# Altium schematic symbol library LLY.SchLib: 5 symbols
Pins are listed as number, name and electrical type; pins without a type are passive.

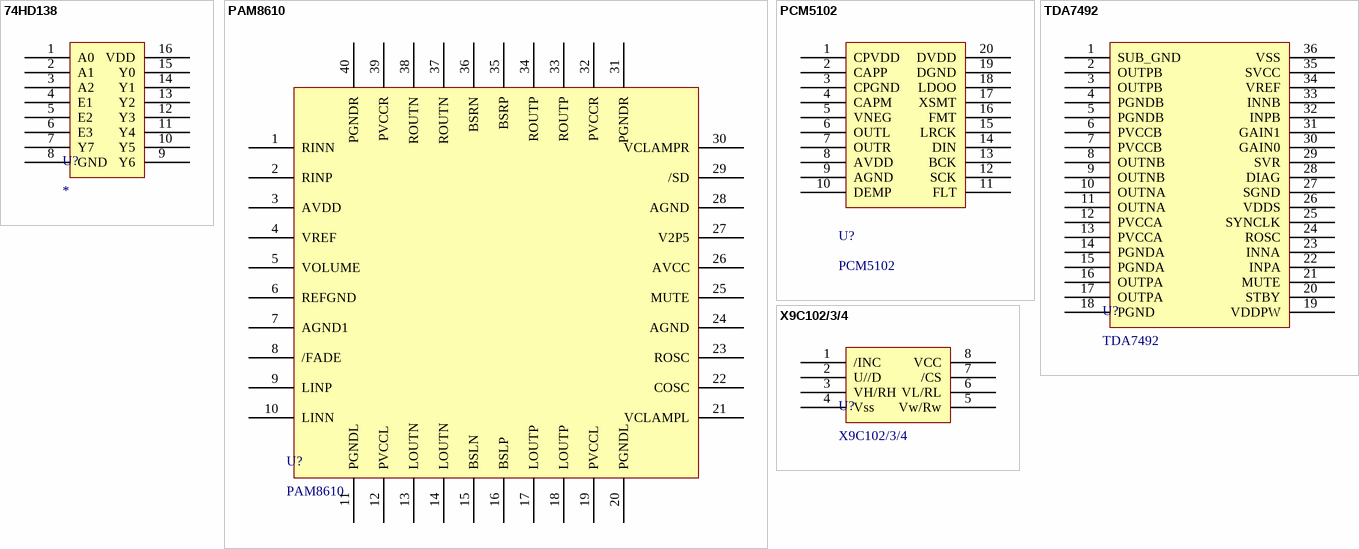
[diagram p0: symbols 74HD138 to X9C102/3/4]

## 74HD138
designator U?
74HC138
pins: 1 A0, 2 A1, 3 A2, 4 E1, 5 E2, 6 E3, 7 Y7, 8 GND, 9 Y6, 10 Y5, 11 Y4, 12 Y3, 13 Y2, 14 Y1, 15 Y0, 16 VDD

## PAM8610
designator U?
pins: 1 RINN, 2 RINP, 3 AVDD, 4 VREF, 5 VOLUME, 6 REFGND, 7 AGND1, 8 /FADE, 9 LINP, 10 LINN, 11 PGNDL, 12 PVCCL, 13 LOUTN, 14 LOUTN, 15 BSLN, 16 BSLP, 17 LOUTP, 18 LOUTP, 19 PVCCL, 20 PGNDL, 21 VCLAMPL, 22 COSC, 23 ROSC, 24 AGND, 25 MUTE, 26 AVCC, 27 V2P5, 28 AGND, 29 /SD, 30 VCLAMPR, 31 PGNDR, 32 PVCCR, 33 ROUTP, 34 ROUTP, 35 BSRP, 36 BSRN, 37 ROUTN, 38 ROUTN, 39 PVCCR, 40 PGNDR

## PCM5102
designator U?
pins: 1 CPVDD, 2 CAPP, 3 CPGND, 4 CAPM, 5 VNEG, 6 OUTL, 7 OUTR, 8 AVDD, 9 AGND, 10 DEMP, 11 FLT, 12 SCK, 13 BCK, 14 DIN, 15 LRCK, 16 FMT, 17 XSMT, 18 LDOO, 19 DGND, 20 DVDD

## TDA7492
designator U?
pins: 1 SUB_GND, 2 OUTPB, 3 OUTPB, 4 PGNDB, 5 PGNDB, 6 PVCCB, 7 PVCCB, 8 OUTNB, 9 OUTNB, 10 OUTNA, 11 OUTNA, 12 PVCCA, 13 PVCCA, 14 PGNDA, 15 PGNDA, 16 OUTPA, 17 OUTPA, 18 PGND, 19 VDDPW, 20 STBY, 21 MUTE, 22 INPA, 23 INNA, 24 ROSC, 25 SYNCLK, 26 VDDS, 27 SGND, 28 DIAG, 29 SVR, 30 GAIN0, 31 GAIN1, 32 INPB, 33 INNB, 34 VREF, 35 SVCC, 36 VSS

## X9C102/3/4
designator U?
pins: 1 /INC, 2 U//D, 3 VH/RH, 4 Vss, 5 Vw/Rw, 6 VL/RL, 7 /CS, 8 VCC